# Altium schematic symbol library ABM11.SchLib: 1 symbol
Pins are listed as number, name and electrical type; pins without a type are passive.

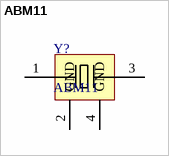
[diagram p0: symbol ABM11]

## ABM11
designator Y?
4-pin 2x1.6mm Quartz Crystal
pins: 1 OSC1, 2 GND (power), 3 OSC2, 4 GND (power)